# EAGLE library part MAX1953_MAX1954 (library m-pad-2.1)
Maxim's MAX1953/MAX1954/MAX1957 Low-Cost, High-Frequency, Current-Mode PWM Buck Controller Description: The MAX1953/MAX1954/MAX1957 is a family of versatile, economical, synchronous current-mode, pulse-width modulation (PWM) buck controllers. These step-down controllers are targeted for applications where cost and size are critical. The MAX1953 operates at a fixed 1MHz switching frequency, thus significantly reducing external component size and cost. Additionally, excellent transient response is obtained using less output capacitance. The MAX1953 operates from low 3V to 5.5V input voltage and can supply up to 10A of output current. Selectable current limit is provided to tailor to the external MOSFETs? on-resistance for optimum cost and performance. The output voltage is adjustable from 0.8V to 0.86VIN. With the MAX1954, the drain-voltage range on the highside FET is 3V to 13.2V and is independent of the supply voltage. It operates at a fixed 300kHz switching frequency and can be used to provide up to 25A of output current with high efficiency. The output voltage is adjustable from 0.8V to 0.86VHSD. The MAX1957 features a tracking output voltage range of 0.4V to 0.86VIN and is capable of sourcing or sinking current for applications such as DDR bus termination and PowerPC?/ASIC/DSP core supplies. The MAX1957 operates from a 3V to 5.5V input voltage and at a fixed 300kHz switching frequency. The MAX1953/MAX1954/MAX1957 provide a COMP pin that can be pulled low to shut down the converter in addition to providing compensation to the error amplifier. An input undervoltage lockout (ULVO) is provided to ensure proper operation under power-sag conditions to prevent the external power MOSFETs from overheating. Internal digital soft-start is included to reduce inrush current. The MAX1953/MAX1954/MAX1957 are available in tiny 10-pin ?MAX packages. Features: Low-Cost Current-Mode Controllers Fixed-Frequency PWM MAX1953 - 1MHz Switching Frequency - Small Component Size, Low Cost - Adjustable Current Limit MAX1954 - 3V to 13.2V Input Voltage - 25A Output Current Capability - 93% Efficiency - 300kHz Switching Frequency MAX1957 - Tracking 0.4V to 0.86VIN Output Voltage Range - Sinking and Sourcing Capability of 3A Shutdown Feature All N-Channel MOSFET Design for Low Cost No Current-Sense Resistor Needed Internal Digital? Soft-Start Thermal Overload Protection Small 10-Pin ?MAX Package Applications: Printers and Scanners Graphic Cards and Video Cards PCs and Servers Microprocessor Core Supply Low-Voltage Distributed Power Telecommunications and Networking Please send any comments to: messi@users.sourceforge.net
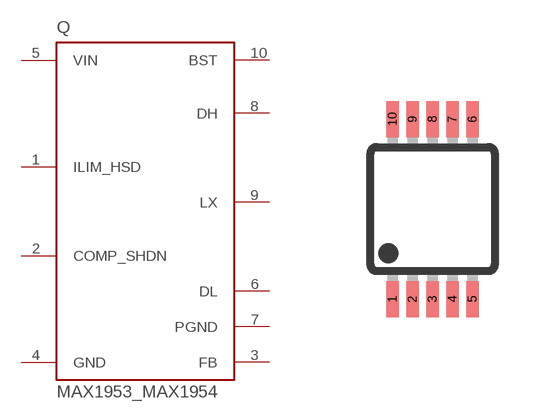
[diagram p165: symbol with the pads of UMAX10; footprint UMAX10]

Designator prefix Q

## MAX1953_MAX1954  [UMAX10]
1  ILIM_HSD  in
2  COMP_SHDN  in
3  FB  in
4  GND  pwr
5  VIN  pwr
6  DL  out
7  PGND  pwr
8  DH  out
9  LX  in
10  BST  pas

## Footprint UMAX10 (pad centres in mm)
micro MAX Package
smd 0.32 x 0.9: 1 -1,-2.25; 2 -0.5,-2.25; 3 0,-2.25; 4 0.5,-2.25; 5 1,-2.25; 6 1,2.25; 7 0.5,2.25; 8 0,2.25; 9 -0.5,2.25; 10 -1,2.25